# Altium footprint library QD354801_LCD_PCB_Package_library.PcbLib: 2 footprints
Each footprint in its own frame and in the unit in brackets; x right, y up, seen from the top. Pads: shape width x height; smd on the part's side, far side on the other; paste and mask are expansions set on the pad; w line width, h text height; cw(c..) or ccw(c..) is an arc to the next point about the centre after c.
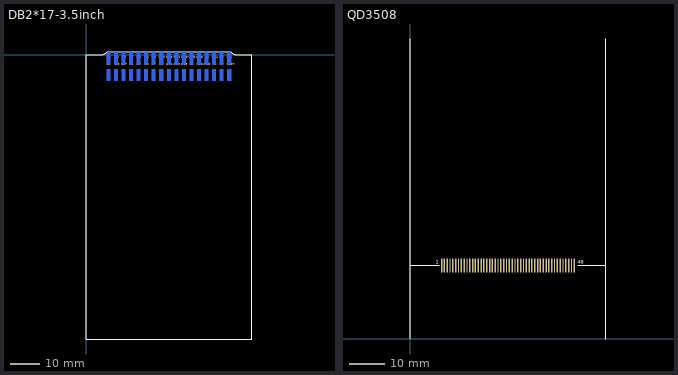
[diagram p0: the footprints below, top view; thin cyan lines are the x and y axes]

## DB2*17-3.5inch [mm] "电容屏版本"
height 3.5
pads (34):
  rect 1.2x4 smd far side: 1(7.405,-6.828) 3(9.945,-6.828) 4(9.945,-1.148) 5(12.485,-6.828) 6(12.485,-1.148) 7(15.025,-6.828) 8(15.025,-1.148) 9(17.565,-6.828) 10(17.565,-1.148) 11(20.105,-6.828) 12(20.105,-1.148) 13(22.645,-6.828) 14(22.645,-1.148) 15(25.185,-6.828) 16(25.185,-1.148) 17(27.725,-6.828) 18(27.725,-1.148) 19(30.265,-6.828) 20(30.265,-1.148) 21(32.805,-6.828) 22(32.805,-1.148) 23(35.345,-6.828) 24(35.345,-1.148) 25(37.885,-6.828) 26(37.885,-1.148) 27(40.425,-6.828) 28(40.425,-1.148) 29(42.965,-6.828) 30(42.965,-1.148) 31(45.505,-6.828) 32(45.505,-1.148) 33(48.045,-6.828)
  oct 1.2x4 smd far side: 2(7.405,-1.148) 34(48.045,-1.148)
Top Overlay:
  lines w0.254: 4.953,0 ccw(c4.928,2.642) 7.011,1.016 48.514,1.016 ccw(c50.597,2.642) 50.622,0 ; 5.08,0 0,0 0,-95.631 55.575,-95.631 55.575,0 ; 50.419,0 55.499,0 ; 55.575,0 51.333,0 55.575,0
  text "BL" at 34.799,-3.556 h0.76
  text "NC" at 42.521,-3.569 h0.76
  text "CRST" at 47.27,-3.62 h0.76
  text "NC" at 44.832,-1.143 h0.76
  text "SDA" at 42.114,-1.156 h0.76
  text "SCL" at 47.245,-1.143 h0.76
  text "INT" at 44.68,-3.595 h0.76
  text "D11" at 26.925,-3.556 h0.76
  text "GND" at 39.498,-3.556 h0.76
  text "GND" at 31.878,-1.143 h0.76
  text "RD" at 9.526,-1.143 h0.76
  text "D0" at 11.939,-1.143 h0.76
  text "D10" at 24.258,-1.143 h0.76
  text "VDD" at 34.418,-1.143 h0.76
  text "GND" at 36.958,-1.143 h0.76
  text "NC" at 39.904,-1.131 h0.76
  text "VDD" at 36.958,-3.556 h0.76
  text "D15" at 31.878,-3.556 h0.76
  text "D12" at 26.925,-1.143 h0.76
  text "D13" at 29.338,-3.556 h0.76
  text "D9" at 24.512,-3.556 h0.76
  text "D8" at 21.972,-1.143 h0.76
  text "D6" at 19.559,-1.143 h0.76
  text "D5" at 19.559,-3.556 h0.76
  text "D4" at 17.019,-1.143 h0.76
  text "D3" at 17.019,-3.556 h0.76
  text "D2" at 14.479,-1.143 h0.76
  text "D1" at 14.479,-3.556 h0.76
  text "RST" at 11.685,-3.556 h0.76
  text "WR" at 9.526,-3.556 h0.76
  text "CS" at 6.859,-3.556 h0.76
  text "RS" at 6.859,-1.143 h0.76
  text "D7" at 21.972,-3.556 h0.76
  text "D14" at 29.338,-1.143 h0.76
Bottom Overlay:
  lines w0.152: 6.135,-4.064 8.675,-4.064 8.675,-6.604 ; 6.135,-6.604 49.315,-6.604 49.315,-1.524 6.135,-1.524 6.135,-6.604
  lines w0.203: 6.643,-6.731 6.135,-6.731 6.135,-1.651 6.643,-1.651 ; 6.77,-6.528 6.135,-6.528 6.135,-1.448 6.77,-1.448 ; 48.68,-6.731 49.315,-6.731 49.315,-1.651 48.68,-1.651 ; 48.807,-6.528 49.315,-6.528 49.315,-1.448 48.807,-1.448

## QD3508 [mm]
pads (48):
  rect 0.4x4 smd: 1(8.88,20.786) 2(9.68,20.786) 3(10.48,20.786) 4(11.28,20.786) 5(12.08,20.786) 6(12.88,20.786) 7(13.68,20.786) 8(14.48,20.786) 9(15.28,20.786) 10(16.08,20.786) 11(16.88,20.786) 12(17.68,20.786) 13(18.48,20.786) 14(19.28,20.786) 15(20.08,20.786) 16(20.88,20.786) 17(21.68,20.786) 18(22.48,20.786) 19(23.28,20.786) 20(24.08,20.786) 21(24.88,20.786) 22(25.68,20.786) 23(26.48,20.786) 24(27.28,20.786) 25(28.08,20.786) 26(28.88,20.786) 27(29.68,20.786) 28(30.48,20.786) 29(31.28,20.786) 30(32.08,20.786) 31(32.88,20.786) 32(33.68,20.786) 33(34.48,20.786) 34(35.28,20.786) 35(36.08,20.786) 36(36.88,20.786) 37(37.68,20.786) 38(38.48,20.786) 39(39.28,20.786) 40(40.08,20.786) 41(40.88,20.786) 42(41.68,20.786) 43(42.48,20.786) 44(43.28,20.786) 45(44.08,20.786) 46(44.88,20.786) 47(45.68,20.786) 48(46.48,20.786)
Top Overlay:
  lines w0.254: -0.012,20.862 8.289,20.862 ; 0,0 0,84.96 ; 47.405,20.862 55.412,20.862 ; 55.412,-0.012 55.412,84.96
  text "1" at 7.273,21.294 h1.02
  text "48" at 47.405,21.294 h1.02